# EAGLE library part WE-LDHMI-172946001 (library Wurth_Elektronik_SemiConductors_rev15b)
VDRM - Variable Step Down Regulator Module - Peak efficiency up to 96% - Current capability up to 2.5A - Wide input voltage range: 7V-50V - Regulated output voltages: 2.5V-15V - Power package QFN - Switching frequency range: 300kHz-1MHz adjustable - External clock synchronisation - Built-in soft-start and tracking - Power Good signal and pre-bias output -Under voltage lockout protection (UVLO) - Voltage overshoot and over-current protection - Over temperature and current protection - Operating junction temperature: -40-85°C - EN55022 class B compliant APPLICATIONS -- Point of Load DC-DC applications -- Servers, Data and Telecom -- System power supplies -- DSPs, FPGAs, MCUs and MPUs -- I/O interface <http://katalog.we-online.de/media/images/pm/MagIC_LDHM_pf2.jpg> Details see: http://katalog.we-online.de/en/pm/MagIC-LDHM/172946001 Created date 2014-06-19 2014 (C) Würth Elektronik
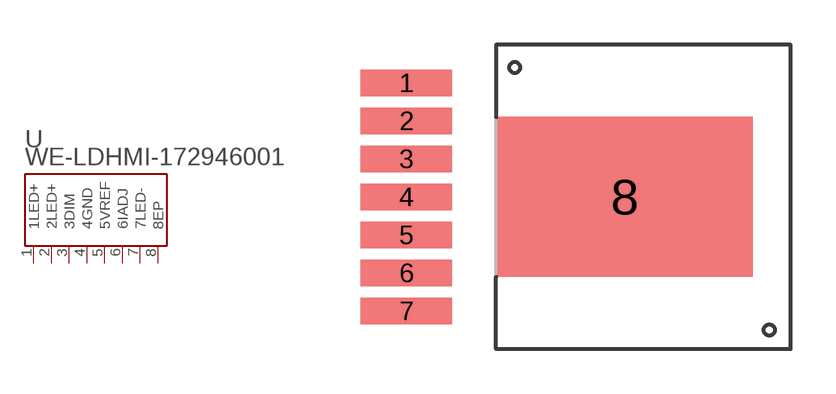
[diagram p0: symbol with the pads of TO263-7EP; footprint TO263-7EP]

Designator prefix U

## WE-LDHMI-172946001  [TO263-7EP]
1  1LED+  in
2  2LED+
3  3DIM
4  4GND  pwr
5  5VREF
6  6IADJ  out
7  7LED-  out
8  8EP  pwr

## Footprint TO263-7EP (pad centres in mm)
VDRM - Variable Step Down Regulator Module Created on 2014-06-19
smd 3.06 x 0.89: 1 -7.305,3.81; 2 -7.305,2.54; 3 -7.305,1.27; 4 -7.305,0; 5 -7.305,-1.27; 6 -7.305,-2.54; 7 -7.305,-3.81
smd 8.54 x 5.35: 8 0,0